# Altium footprint library MPPT_Charger.PcbLib: 34 footprints (part 2 of 3)
Each footprint in its own frame and in the unit in brackets; x right, y up, seen from the top. Pads: shape width x height; smd on the part's side, far side on the other; paste and mask are expansions set on the pad; w line width, h text height; cw(c..) or ccw(c..) is an arc to the next point about the centre after c.
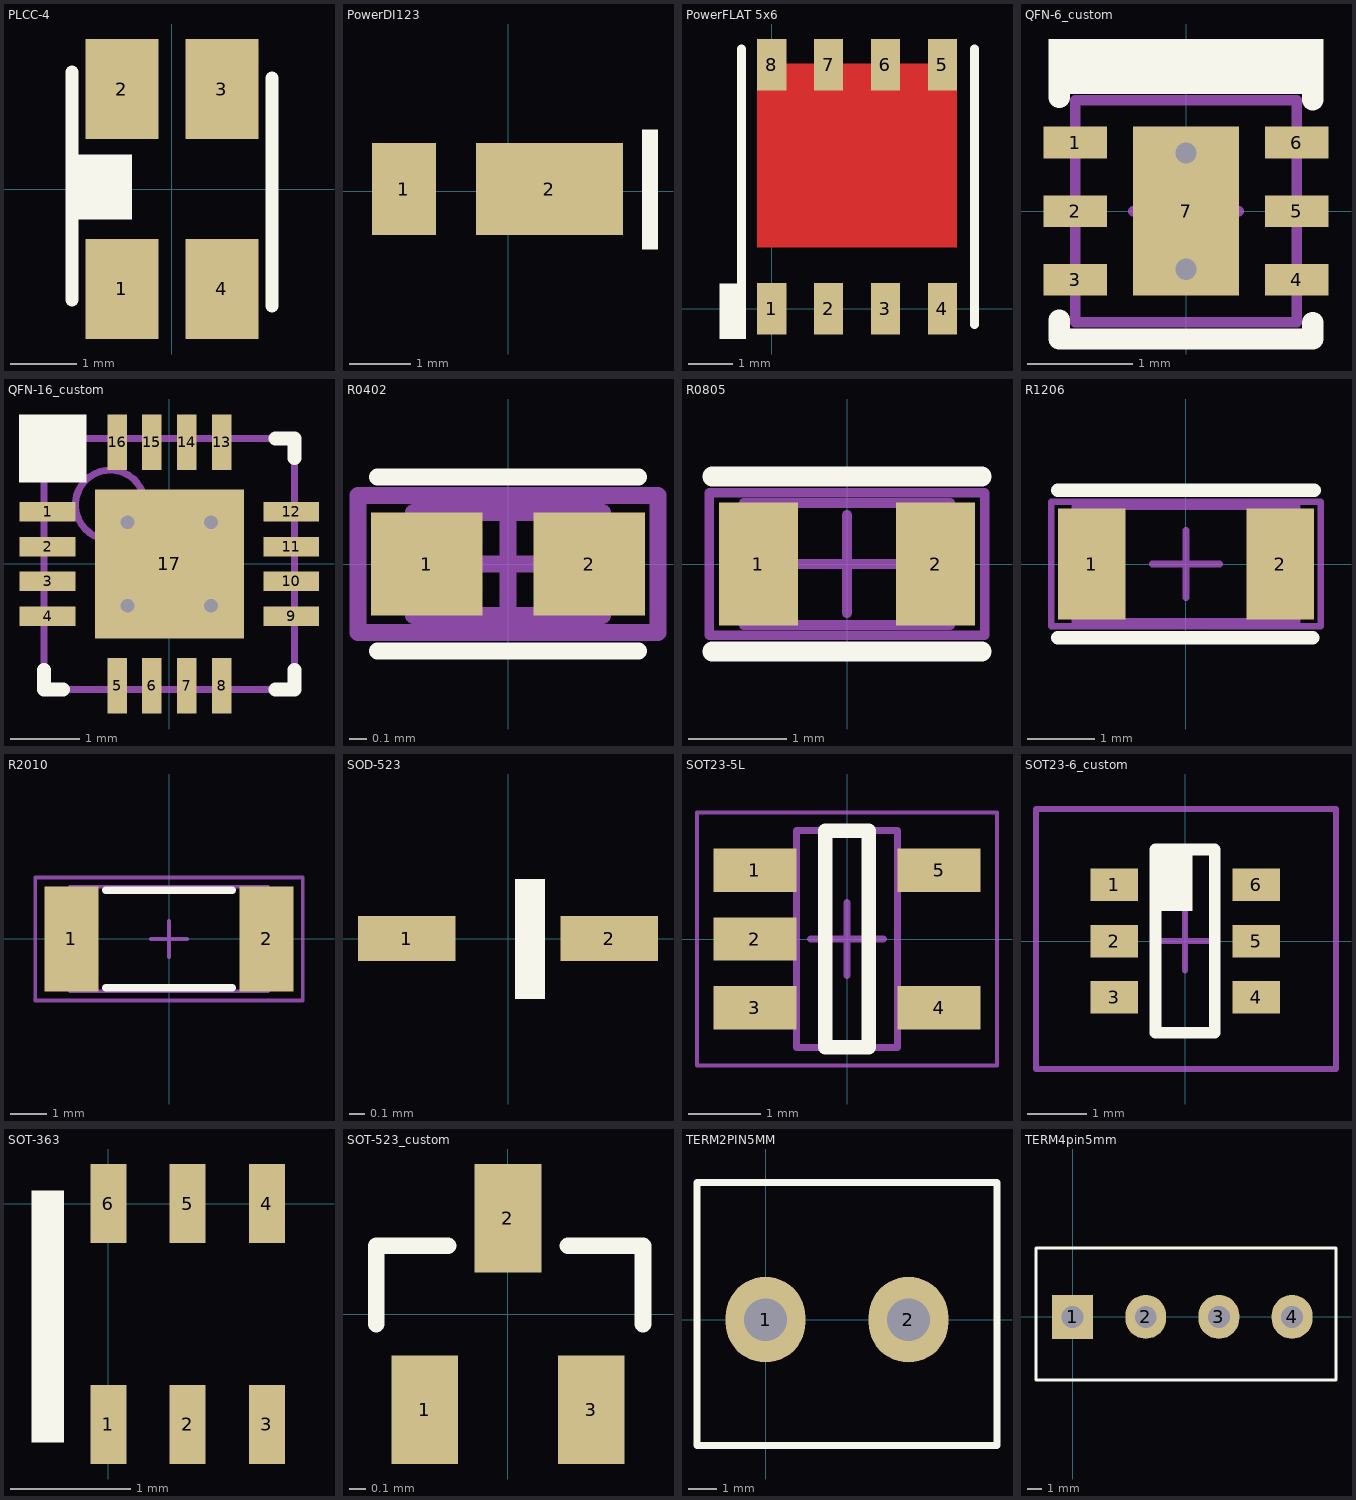
[diagram p1: the footprints below, top view; thin cyan lines are the x and y axes]

## PLCC-4 [mm]
height 2.1
pads (4):
  rect 1.1x1.5 smd mask+0.05: 1(-0.75,-1.5) 2(-0.75,1.5) 3(0.75,1.5) 4(0.75,-1.5)
Top Overlay:
  rectangle: -1.59,-0.46 -0.6,0.52
  lines w0.2: -1.5,-1.66 -1.5,1.75 ; 1.5,-1.75 1.5,1.66
3D body "Osram_Led_PLCC4-2.step": height 1.95, standoff 0, extent -1.4,-1.75 1.4,1.75

## PowerDI123 [mm]
height 1
pads (2):
  rect 1.05x1.5 smd: 1(-1.706,0.034)
  rect 2.4x1.5 smd: 2(0.669,0.034)
Top Overlay:
  rectangle: 2.177,-0.95 2.441,1.005
3D body "User Library-powerdi123.step": height 1, standoff 0, extent -2.142,-0.94 1.733,0.99

## PowerFLAT 5x6 [mm]
height 1
pads (8):
  rect 0.65x1.15 smd: 1(0,0) 2(1.27,0) 3(2.54,0) 4(3.81,0) 5(3.81,5.45) 6(2.54,5.45) 7(1.27,5.45) 8(0,5.45)
Top Layer:
  rectangle: -0.325,1.375 4.135,5.475
Top Overlay:
  rectangle: -1.167,-0.673 -0.572,0.564
  lines w0.2: -0.672,-0.35 -0.672,5.801 ; 4.528,-0.35 4.528,5.802
3D body "User Library-Power_Flat_5x6.step": height 0.95, standoff -0.04, extent -0.672,-0.349 4.528,5.801

## QFN-6_custom [mm] "QFN, 6-Leads, Body 2,1x2,1mm (max), Pitch 0,65mm, IPC Low Density"
height 0.8
pads (7):
  rect 0.6x0.3 smd: 1(-1.05,0.65) 2(-1.05,0) 3(-1.05,-0.65) 4(1.05,-0.65) 5(1.05,0) 6(1.05,0.65)
  rect 1x1.6 smd: 7(0,0)
via 0,-0.55 diameter 0.4 hole 0.2
via 0,0.55 diameter 0.4 hole 0.2
Top Overlay:
  rectangle: -1.3,1.21 1.3,1.63
  lines w0.2: -1.2,-1.03 -1.2,-1.21 1.2,-1.21 ; -1.2,1.075 -1.2,1.21 1.19,1.21 ; 1.2,-1.19 1.2,-1.055 ; 1.2,1.055 1.2,1.2
Mechanical 13:
  lines w0.1: -1.05,-1.05 -1.05,1.05 1.05,1.05 1.05,-1.05 -1.05,-1.05
Mechanical 15:
  lines w0.1: -0.5,0 0.5,0 ; 0,-0.5 0,0.5
3D body "User Library-wson6-drv.step": height 0.8, standoff 0, extent -1.01,-1 1.01,1

## QFN-16_custom [mm] "Plastic Quad Flatpack 16 pins, 0.5 mm pitch"
height 1
pads (17):
  rect 0.8x0.28 smd: 1(-1.75,0.75) 2(-1.75,0.25) 3(-1.75,-0.25) 4(-1.75,-0.75) 9(1.75,-0.75) 10(1.75,-0.25) 11(1.75,0.25) 12(1.75,0.75)
  rect 0.28x0.8 smd: 5(-0.75,-1.75) 6(-0.25,-1.75) 7(0.25,-1.75) 8(0.75,-1.75) 13(0.75,1.75) 14(0.25,1.75) 15(-0.25,1.75) 16(-0.75,1.75)
  rect 2.14x2.14 smd: 17(0,0)
via 0.6,-0.6 diameter 0.4 hole 0.2
via -0.6,-0.6 diameter 0.4 hole 0.2
via 0.6,0.6 diameter 0.4 hole 0.2
via -0.6,0.6 diameter 0.4 hole 0.2
Top Overlay:
  rectangle: -2.16,1.17 -1.19,2.15
  lines w0.2: -1.8,-1.525 -1.8,-1.8 -1.525,-1.8 ; -1.8,1.525 -1.8,1.8 -1.525,1.8 ; 1.525,-1.8 1.8,-1.8 1.8,-1.525 ; 1.525,1.8 1.8,1.8 1.8,1.525
Mechanical 13:
  circle w0.1: c-0.85,0.85 r0.5
  lines w0.1: -1.8,-1.8 1.8,-1.8 1.8,1.8 -1.8,1.8 -1.8,-1.8
Mechanical 15:
  lines w0.1: -0.5,0 0.5,0 ; 0,-0.5 0,0.5
3D body: height 1, standoff 0.08, extent -1.8,-1.8 1.8,1.8

## R0402 [mm] "Chip resistor 0402"
height 0.6
pads (2):
  rect 0.65x0.6 smd: 1(-0.475,0) 2(0.475,0)
Top Overlay:
  lines w0.1: -0.762,-0.508 0.762,-0.508 ; -0.762,0.508 0.762,0.508
Mechanical 13:
  lines w0.1: -0.55,-0.3 0.55,-0.3 0.55,0.3 -0.55,0.3 -0.55,-0.3
Mechanical 15:
  lines w0.1: -0.3,0 0.3,0 ; 0,-0.3 0,0.3 ; -0.875,-0.4 0.875,-0.4 0.875,0.4 -0.875,0.4 -0.875,-0.4
3D body "SW3dPS-0402 SMD Resistor.STEP": height 0.2, standoff 0, extent -0.5,-0.3 0.5,0.3

## R0805 [mm] "Chip Resistor, 2-Leads, Body 2,0x1,3mm, IPC High Density"
height 1
pads (2):
  rect 0.8x1.25 smd: 1(-0.9,0) 2(0.9,0)
Top Overlay:
  lines w0.2: -1.372,-0.889 1.372,-0.889 ; -1.372,0.889 1.372,0.889
Mechanical 13:
  lines w0.1: -1.05,-0.62 1.05,-0.62 1.05,0.62 -1.05,0.62 -1.05,-0.62
Mechanical 15:
  lines w0.1: -0.5,0 0.5,0 ; 0,-0.5 0,0.5 ; -1.4,-0.725 1.4,-0.725 1.4,0.725 -1.4,0.725 -1.4,-0.725
3D body "SW3dPS-0805 SMD Resistor.STEP": height 0.78, standoff 0, extent -1.025,-0.615 0.975,0.635

## R1206 [mm] "Chip Resistor, 2-Leads, Body 3,2x1,6mm, IPC High Density"
height 1
pads (2):
  rect 1x1.65 smd: 1(-1.4,0) 2(1.4,0)
Top Overlay:
  lines w0.2: -1.905,-1.092 1.88,-1.092 ; -1.905,1.092 1.905,1.092
Mechanical 13:
  lines w0.1: -1.65,-0.85 1.65,-0.85 1.65,0.85 -1.65,0.85 -1.65,-0.85
Mechanical 15:
  lines w0.1: -0.5,0 0.5,0 ; 0,-0.5 0,0.5 ; -2,-0.925 2,-0.925 2,0.925 -2,0.925 -2,-0.925
3D body "SW3dPS-1206 SMD Resistor.STEP": height 1, standoff 0, extent -1.625,-0.813 1.575,0.787

## R2010 [mm] "Chip Capacitor, 2-Leads, Body 5.3x2.6mm, IPC Medium Density"
height 0.74
pads (2):
  rect 1.5x2.9 smd: 1(-2.7,0) 2(2.7,0)
Top Overlay:
  lines w0.2: -1.75,-1.35 1.75,-1.35 ; -1.75,1.35 1.75,1.35
Mechanical 13:
  lines w0.1: -2.75,-1.445 -2.75,1.445 2.75,1.445 2.75,-1.445 -2.75,-1.445
Mechanical 15:
  lines w0.1: -0.5,0 0.5,0 ; 0,-0.5 0,0.5 ; -3.7,-1.7 -3.7,1.7 3.7,1.7 3.7,-1.7 -3.7,-1.7
3D body "R2010.STEP": height 0.47, standoff 0, extent -2.5,-1.232 2.5,1.27

## SOD-523 [mm]
pads (2):
  rect 0.65x0.3 smd: 1(-0.675,0) 2(0.675,0)
Top Overlay:
  rectangle: 0.048,-0.401 0.246,0.397
3D body "SOD-523F.step": height 0.7, standoff 0, extent -0.8,-0.399 0.8,0.399

## SOT23-5L [mm] "SOT23, 5-Leads, Body 2,90x2,80mm, Pitch 0,95mm, IPC Medium Density"
height 1.1
pads (5):
  rect 1.15x0.6 smd: 1(-1.275,0.95) 2(-1.275,0) 3(-1.275,-0.95) 4(1.275,-0.95) 5(1.275,0.95)
Top Overlay:
  lines w0.2: -0.3,-1.5 0.3,-1.5 0.3,1.5 -0.3,1.5 -0.3,-1.5
Mechanical 13:
  lines w0.1: -0.7,-1.5 -0.7,1.5 0.7,1.5 0.7,-1.5 -0.7,-1.5
Mechanical 15:
  lines w0.05: -2.075,-1.75 -2.075,1.75 2.075,1.75 2.075,-1.75 -2.075,-1.75
  lines w0.1: -0.5,0 0.5,0 ; 0,-0.5 0,0.5
3D body "SOT23-5-2.step": height 1.45, standoff 0, extent -1.4,-1.45 1.4,1.45

## SOT23-6_custom [mm]
pads (6):
  rect 0.8x0.55 smd: 1(-1.2,0.95) 2(-1.2,0) 3(-1.2,-0.95) 4(1.2,-0.95) 5(1.2,0) 6(1.2,0.95)
Top Overlay:
  rectangle: -0.499,0.507 0.128,1.549
  lines w0.2: -0.5,-1.55 0.5,-1.55 0.5,1.55 -0.5,1.55 -0.5,-1.55
Mechanical 15:
  lines w0.1: -0.5,0 0.5,0 ; 0,-0.5 0,0.5 ; -2.52,-2.16 -2.52,2.23 2.55,2.23 2.55,-2.16 -2.52,-2.16
3D body "sot_23_6.STEP": height 1, standoff 0, extent -1.22,-1.48 1.12,1.44

## SOT-363 [mm]
pads (6):
  rect 0.3x0.66 smd: 1(0,-1.84) 2(0.66,-1.84) 3(1.32,-1.84) 4(1.32,0) 5(0.66,0) 6(0,0)
Top Overlay:
  rectangle: -0.64,-1.99 -0.37,0.11
3D body "User Library-SC70-6.step": height 0.93, standoff -0.02, extent -0.34,-1.99 1.66,0.11

## SOT-523_custom [mm]
pads (3):
  rect 0.4x0.65 smd: 1(-0.5,-0.575) 2(0,0.575) 3(0.5,-0.575)
Top Overlay:
  lines w0.1: -0.79,-0.06 -0.79,0.41 -0.36,0.41 ; 0.36,0.41 0.81,0.41 0.81,-0.06
3D body "User Library-SOT-523.step": height 0.8, standoff 0, extent -0.79,-0.81 0.81,0.79

## TERM2PIN5MM [mm] "Terminal block 2 pins, 5 mm pitch"
height 12
pads (2):
  oval 2.8x3 hole 1.5: 1(0,0) 2(5,0)
Top Overlay:
  lines w0.254: -2.4,-4.4 -2.4,0.88 -2.4,4.8 8.1,4.8 8.1,-4.4 -2.4,-4.4
3D body "msg02001.stp": height 13.4, standoff -3.5, extent -2.45,-4.3 8.05,4.7

## TERM4pin5mm [mm] "Terminal 4 pins, 5 mm pitch"
pads (4):
  rect 2.8x3 hole 1.5: 1(0,0)
  oval 2.8x3 hole 1.5: 2(5,0) 3(10,0) 4(15,0)
Top Overlay:
  lines w0.2: -2.5,-4.3 18,-4.3 18,4.7 -2.5,4.7 -2.5,-4.3
3D body "msg04001.stp": height 13.4, standoff -3.5, extent -2.5,-4.3 18,4.7